# Altium schematic symbol library Components - 25.02.24 - 13.56.SchLib: 1 symbol
Pins are listed as number, name and electrical type; pins without a type are passive.

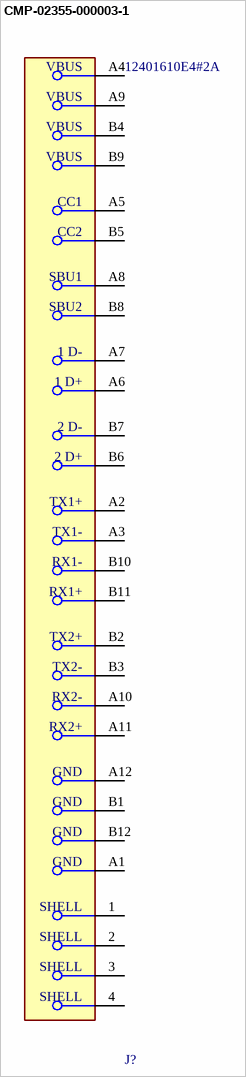
[diagram p0: symbol CMP-02355-000003-1]

## CMP-02355-000003-1
designator J?, comment 12401610E4#2A
CONN RCP USB3.1 TYPEC 24P SMD RA; Connector Type: USB; Number of Contacts: 24; Gender: Receptacle; Packaging: Cut Tape; Mount: Surface Mount; Number of Pins: 24
footprint FP-12401610E4#2A-MFG
pins: 1 SHELL (power), 2 SHELL (power), 3 SHELL (power), 4 SHELL (power), A1 GND (power), A2 TX1+, A3 TX1-, A4 VBUS (power), A5 CC1, A6 1 D+, A7 1 D-, A8 SBU1, A9 VBUS (power), A10 RX2-, A11 RX2+, A12 GND (power), B1 GND (power), B2 TX2+, B3 TX2-, B4 VBUS (power), B5 CC2, B6 2 D+, B7 2 D-, B8 SBU2, B9 VBUS (power), B10 RX1-, B11 RX1+, B12 GND (power)